# Altium schematic symbol library Flight_Computer1.SCHLIB: 60 symbols (part 4 of 4)
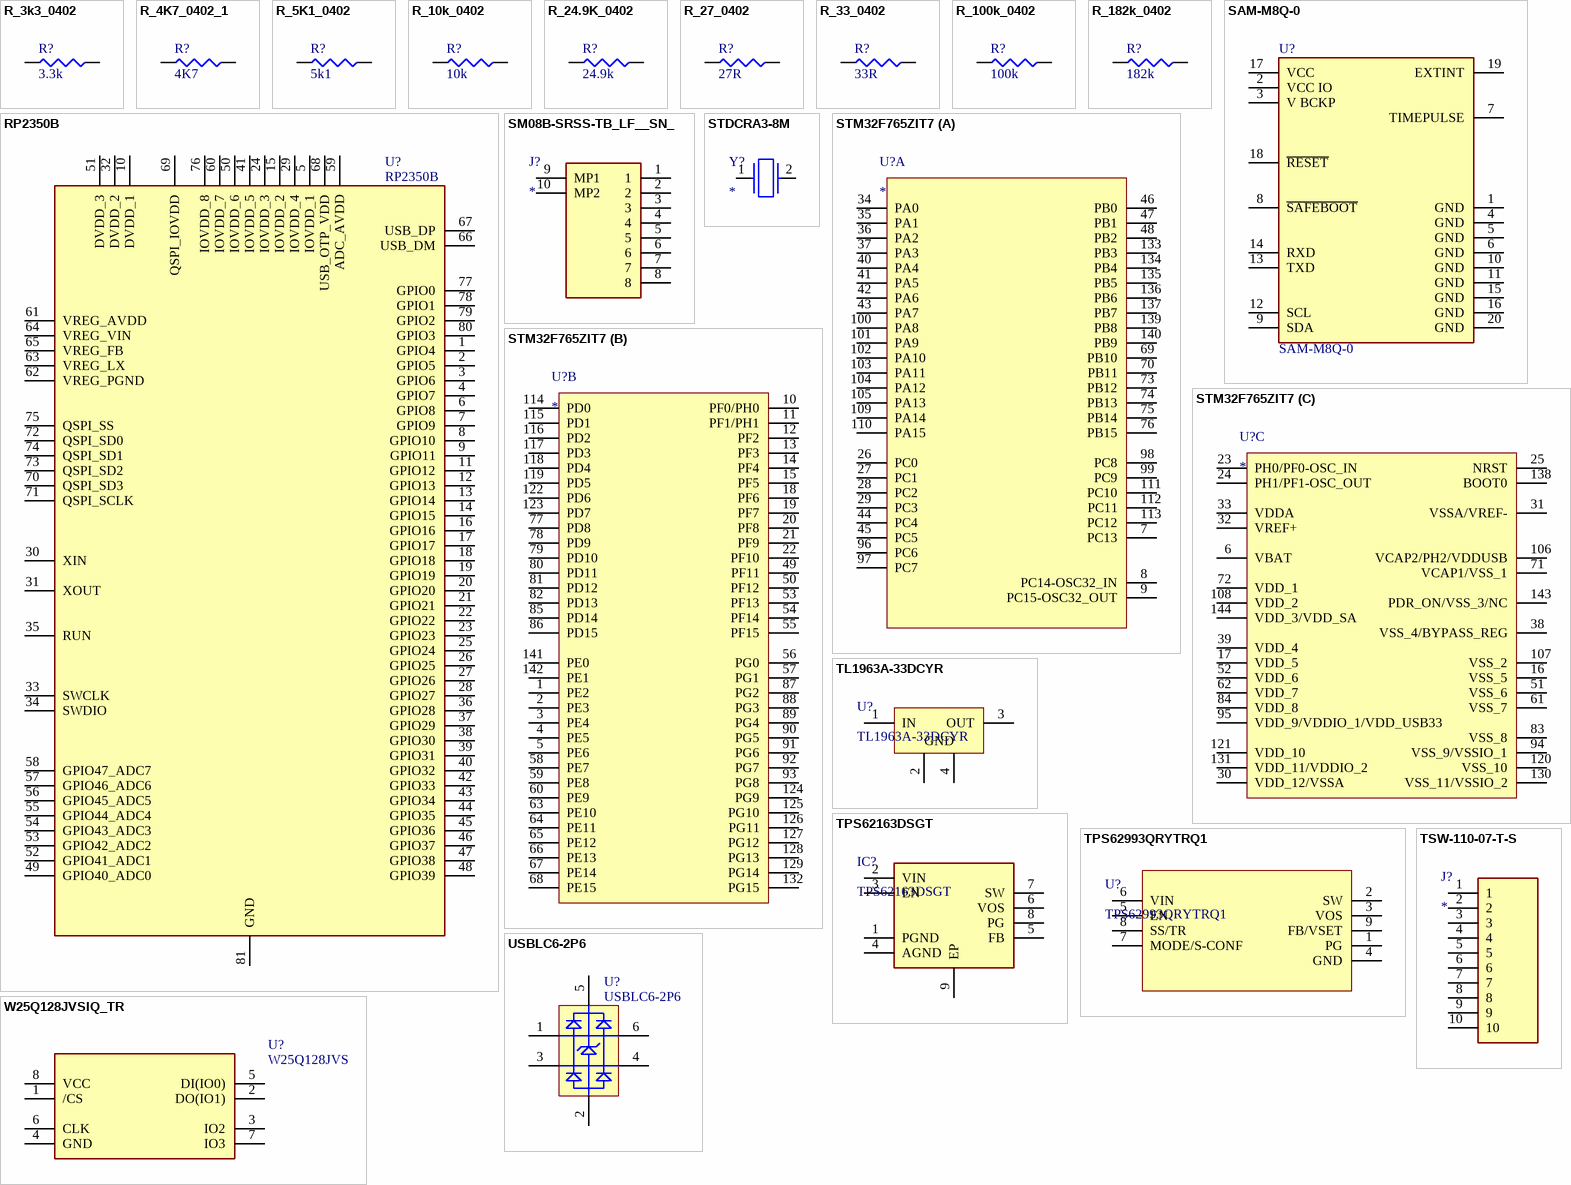
[diagram p4: symbols R_3k3_0402 to W25Q128JVSIQ_TR]

## R_182k_0402
designator R?, comment 182k
RES 182K OHM 1% 1/16W 0402; Manufacturer: Yageo Group; Manufacturer Part Number: RC0402FR-07182KL; Max Power Dissipation: 63mW; Power Dissipation: 62.5mW; Value: 182kΩ; Temperature Coefficient: 100ppm/°C; Voltage Rating: 50V; Supplier: DigiKey; Supplier Part Number: YAG3015CT-ND; RoHS: Compliant; Category: Chip SMD Resistors; Stock: 90844; Pricing: 1=0.1, 10=0.005, 25=0.0044, 50=0.004, 100=0.0036, 250=0.00308, 10000=0.00204, 20000=0.002, 30000=0.00196, 50000=0.00182, 250000=0.00181 (USD); Case/Package: 0402; Case Code (Imperial): 0402; Case Code (Metric): 1005; China RoHS: Non-Compliant; Composition: Thick Film; Depth: 500µm; Features: Moisture Resistant; Height: 350µm; Lead Free: Lead Free; Length: 1mm; Lifecycle Status: Production; Max Operating Temperature: 155°C; Military Standard: Not; Min Operating Temperature: -55°C; Mounting Technology: Surface Mount; Number of Terminals: 2; Number of Terminations: 2; Packaging: Tape & Reel; Power Rating: 63mW; REACH SVHC: Yes; Schedule B: 8533210045, 8533210045|8533210045|8533210045|8533210045|8533210045; Termination: SMD/SMT; Tolerance: 1%; Voltage Rating (DC): 50V; Width: 500µm; Working Voltage: 50V; ComponentLink1URL: https://datasheet.octopart.com:443/RC0402FR-07182KL-Yageo-datasheet-175887523.pdf?src-supplier=Newark; ComponentLink1Description: https://datasheet.octopart.com:443/RC0402FR-07182KL-Yageo-datasheet-175887523.pdf?src-supplier=Newark; ComponentLink2URL: https://datasheet.octopart.com:443/RC0402FR-07182KL-Yageo-datasheet-103092701.pdf?src-supplier=Upverter; ComponentLink2Description: https://datasheet.octopart.com:443/RC0402FR-07182KL-Yageo-datasheet-103092701.pdf?src-supplier=Upverter; ComponentLink3URL: https://datasheet.octopart.com:443/RC0402FR-07182KL-Yageo-Group-datasheet-189192902.pdf?src-supplier=TME; ComponentLink3Description: https://datasheet.octopart.com:443/RC0402FR-07182KL-Yageo-Group-datasheet-189192902.pdf?src-supplier=TME; ComponentLink4URL: https://datasheet.octopart.com:443/RC0402FR-07182KL-Yageo-Group-datasheet-176638170.pdf?src-supplier=TME; ComponentLink4Description: https://datasheet.octopart.com:443/RC0402FR-07182KL-Yageo-Group-datasheet-176638170.pdf?src-supplier=TME; ComponentLink5URL: https://datasheet.octopart.com:443/RC0402FR-07182KL-Yageo-datasheet-164759695.pdf?src-supplier=Future+Electronics; ComponentLink5Description: https://datasheet.octopart.com:443/RC0402FR-07182KL-Yageo-datasheet-164759695.pdf?src-supplier=Future+Electronics; ComponentLink6URL: https://datasheet.octopart.com:443/RC0402FR-07182KL-Yageo-datasheet-127823281.pdf?src-supplier=Future+Electronics; ComponentLink6Description: https://datasheet.octopart.com:443/RC0402FR-07182KL-Yageo-datasheet-127823281.pdf?src-supplier=Future+Electronics; ComponentLink7URL: https://datasheet.octopart.com:443/RC0402FR-07182KL-Yageo-datasheet-137700087.pdf?src-supplier=Future+Electronics; ComponentLink7Description: https://datasheet.octopart.com:443/RC0402FR-07182KL-Yageo-datasheet-137700087.pdf?src-supplier=Future+Electronics; ComponentLink8URL: https://datasheet.octopart.com:443/RC0402FR-07182KL-Yageo-datasheet-12531192.pdf?src-supplier=Future+Electronics; ComponentLink8Description: https://datasheet.octopart.com:443/RC0402FR-07182KL-Yageo-datasheet-12531192.pdf?src-supplier=Future+Electronics; ComponentLink9URL: https://datasheet.octopart.com:443/RC0402FR-07182KL-Yageo-datasheet-10408619.pdf?src-supplier=Future+Electronics; ComponentLink9Description: https://datasheet.octopart.com:443/RC0402FR-07182KL-Yageo-datasheet-10408619.pdf?src-supplier=Future+Electronics; ComponentLink10URL: https://datasheet.octopart.com/RC0402FR-07182KL-Yageo-datasheet-73766026.pdf; ComponentLink10Description: https://datasheet.octopart.com/RC0402FR-07182KL-Yageo-datasheet-73766026.pdf; ComponentLink11URL: http://sigma.octopart.com:80/rohs_statement/Yageo-company-2.pdf?src-supplier=Compliance+Statements; ComponentLink11Description: http://sigma.octopart.com:80/rohs_statement/Yageo-company-2.pdf?src-supplier=Compliance+Statements; ComponentLink12URL: http://sigma.octopart.com:80/conflict_mineral_statement/Yageo-company-3.pdf?src-supplier=Compliance+Statements; ComponentLink12Description: http://sigma.octopart.com:80/conflict_mineral_statement/Yageo-company-3.pdf?src-supplier=Compliance+Statements; LCSC Part #: C327365
footprint 0402_R
pins: 1, 2

## RP2350B
designator U?
Integrated Circuit; Manufacturer_Name: RASPBERRY-PI; Datasheet Link: https://datasheets.raspberrypi.com/rp2350/rp2350-product-brief.pdf; Height: 0.9mm; Manufacturer_Part_Number: RP2350B; LCSC Part #: C42415655
footprint QFN40P1000X1000X90-81N-D
pins: 1 GPIO4, 2 GPIO5, 3 GPIO6, 4 GPIO7, 5 IOVDD_1, 6 GPIO8, 7 GPIO9, 8 GPIO10, 9 GPIO11, 10 DVDD_1, 11 GPIO12, 12 GPIO13, 13 GPIO14, 14 GPIO15, 15 IOVDD_2, 16 GPIO16, 17 GPIO17, 18 GPIO18, 19 GPIO19, 20 GPIO20, 21 GPIO21, 22 GPIO22, 23 GPIO23, 24 IOVDD_3, 25 GPIO24, 26 GPIO25, 27 GPIO26, 28 GPIO27, 29 IOVDD_4, 30 XIN, 31 XOUT, 32 DVDD_2, 33 SWCLK, 34 SWDIO, 35 RUN, 36 GPIO28, 37 GPIO29, 38 GPIO30, 39 GPIO31, 40 GPIO32, 41 IOVDD_5, 42 GPIO33, 43 GPIO34, 44 GPIO35, 45 GPIO36, 46 GPIO37, 47 GPIO38, 48 GPIO39, 49 GPIO40_ADC0, 50 IOVDD_6, 51 DVDD_3, 52 GPIO41_ADC1, 53 GPIO42_ADC2, 54 GPIO43_ADC3, 55 GPIO44_ADC4, 56 GPIO45_ADC5, 57 GPIO46_ADC6, 58 GPIO47_ADC7, 59 ADC_AVDD, 60 IOVDD_7, 61 VREG_AVDD, 62 VREG_PGND, 63 VREG_LX, 64 VREG_VIN, 65 VREG_FB, 66 USB_DM, 67 USB_DP, 68 USB_OTP_VDD, 69 QSPI_IOVDD, 70 QSPI_SD3, 71 QSPI_SCLK, 72 QSPI_SD0, 73 QSPI_SD2, 74 QSPI_SD1, 75 QSPI_SS, 76 IOVDD_8, 77 GPIO0, 78 GPIO1, 79 GPIO2, 80 GPIO3, 81 GND

## SAM-M8Q-0
designator U?
RF RX GALILEO 1.575GHZ/1.602GHZ; Manufacturer: u-blox; Telecom IC Type: TELECOM CIRCUIT; Supplier: Digikey; Supplier Part Number: 672-1054-1-ND; Manufacturer Part Number: SAM-M8Q-0; RoHS: Yes; Category: RF Receivers, Transceivers; Stock: 3000; Pricing: 1=31.5, 10=25.91, 50=21.24, 100=18.1279 (USD); RoHS Compliant: Yes; ComponentLink1URL: https://datasheet.ciiva.com:443/pdfs/VipMasterIC/IC/UBLO/UBLO-S-A0004996580/UBLO-S-A0004996580-1.pdf?src-supplier=IHS+Markit; ComponentLink1Description: https://datasheet.ciiva.com:443/pdfs/VipMasterIC/IC/UBLO/UBLO-S-A0004996580/UBLO-S-A0004996580-1.pdf?src-supplier=IHS+Markit; ComponentLink2URL: https://datasheet.octopart.com/SAM-M8Q-0-u-blox-datasheet-137709226.pdf?src-supplier=Future+Electronics; ComponentLink2Description: https://datasheet.octopart.com/SAM-M8Q-0-u-blox-datasheet-137709226.pdf?src-supplier=Future+Electronics; ComponentLink3URL: https://datasheet.octopart.com/SAM-M8Q-0-u-blox-datasheet-88027277.pdf?src-supplier=TME; ComponentLink3Description: https://datasheet.octopart.com/SAM-M8Q-0-u-blox-datasheet-88027277.pdf?src-supplier=TME; LCSC Part #: C5447387
footprint SAMM8Q0
pins: 1 GND, 2 VCC IO, 3 V BCKP, 4 GND, 5 GND, 6 GND, 7 TIMEPULSE, 8 ~{SAFEBOOT}, 9 SDA, 10 GND, 11 GND, 12 SCL, 13 TXD, 14 RXD, 15 GND, 16 GND, 17 VCC, 18 ~{RESET}, 19 EXTINT, 20 GND

## SM08B-SRSS-TB_LF__SN_
designator J?
CONN HEADER SMD R/A 8POS 1MM; Manufacturer_Name: JST (JAPAN SOLDERLESS TERMINALS); Manufacturer_Part_Number: SM08B-SRSS-TB(LF)(SN); Manufacturer: JST; Connector Type: Male Pin; Contact Resistance: 40mΩ; Current Rating: 1A; Dielectric Material: Polyamide; Gender: Male; Insulation Resistance: 100MΩ; Number of Contacts: 8; Pitch: 990.6µm; Voltage Rating: 50V; Datasheet Link: https://www.jst-mfg.com/product/pdf/eng/eSH.pdf?681342af00cbd; Height: 2.95mm; Mouser Part Number: N/A; Mouser Price/Stock: https://www.mouser.co.uk/ProductDetail/JST-Commercial/SM08B-SRSS-TBLFSN?qs=QpmGXVUTftEPqGOAsnf4nQ%3D%3D; Arrow Part Number: SM08B-SRSS-TB(LF)(SN); Arrow Price/Stock: https://www.arrow.com/en/products/sm08b-srss-tb-lf-sn/jst-manufacturing?utm_currency=USD&region=europe; Supplier: Mouser; Supplier Part Number: 306-SM08BSRSSTBLFSN; Manufacturer Part Number: SM08B-SRSS-TB(LF)(SN); RoHS: Compliant; Category: Headers and Wire Housings; Stock: 10177; Pricing: 1=1.22, 10=1.08, 50=1.08, 100=0.922, 1000=0.813, 10000=0.691 (USD); China RoHS: Compliant; Color: Natural; Contact Gender: Male; Contact Material: Copper, Tin; Contact Plating: Tin; Flammability Rating: UL94 V-0; Housing Color: Natural; Housing Material: Nylon; Lead Free: Lead Free; Lead Pitch: 1mm; Lifecycle Status: Production; Material: Polyamide; Max Operating Temperature: 85°C; Min Operating Temperature: -25°C; Mounting Technology: Surface Mount; Pins: 8; Number of Positions: 8; Number of Rows: 1; Packaging: Cut Tape; REACH SVHC: Yes; Terminal Pitch: 1mm; Termination: Solder; Voltage Rating (AC): 50V; ComponentLink1URL: https://datasheet.octopart.com:443/SM08B-SRSS-TB%28LF%29%28SN%29-JST-datasheet-12489618.pdf?src-supplier=Upverter; ComponentLink1Description: https://datasheet.octopart.com:443/SM08B-SRSS-TB%28LF%29%28SN%29-JST-datasheet-12489618.pdf?src-supplier=Upverter; ComponentLink2URL: https://datasheet.octopart.com:443/SM08B-SRSS-TB%28LF%29%28SN%29-JST-datasheet-152738602.pdf?src-supplier=Upverter; ComponentLink2Description: https://datasheet.octopart.com:443/SM08B-SRSS-TB%28LF%29%28SN%29-JST-datasheet-152738602.pdf?src-supplier=Upverter; ComponentLink3URL: https://datasheet.octopart.com:443/SM08B-SRSS-TB%28LF%29%28SN%29-JST-datasheet-8330955.pdf?src-supplier=Upverter; ComponentLink3Description: https://datasheet.octopart.com:443/SM08B-SRSS-TB%28LF%29%28SN%29-JST-datasheet-8330955.pdf?src-supplier=Upverter; ComponentLink4URL: https://datasheet.octopart.com:443/SM08B-SRSS-TB%28LF%29%28SN%29-JST-datasheet-5322443.pdf?src-supplier=element14+APAC; ComponentLink4Description: https://datasheet.octopart.com:443/SM08B-SRSS-TB%28LF%29%28SN%29-JST-datasheet-5322443.pdf?src-supplier=element14+APAC; ComponentLink5URL: https://datasheet.octopart.com:443/SM08B-SRSS-TB%28LF%29%28SN%29-JST-datasheet-65849987.pdf?src-supplier=element14+APAC; ComponentLink5Description: https://datasheet.octopart.com:443/SM08B-SRSS-TB%28LF%29%28SN%29-JST-datasheet-65849987.pdf?src-supplier=element14+APAC; ComponentLink6URL: https://datasheet.octopart.com:443/SM08B-SRSS-TB%28LF%29%28SN%29-JST-datasheet-12513377.pdf?src-supplier=Future+Electronics; ComponentLink6Description: https://datasheet.octopart.com:443/SM08B-SRSS-TB%28LF%29%28SN%29-JST-datasheet-12513377.pdf?src-supplier=Future+Electronics; ComponentLink7URL: https://datasheet.octopart.com:443/SM08B-SRSS-TB/LF/SN-JST-datasheet-120967.pdf?src-supplier=Future+Electronics; ComponentLink7Description: https://datasheet.octopart.com:443/SM08B-SRSS-TB/LF/SN-JST-datasheet-120967.pdf?src-supplier=Future+Electronics; ComponentLink8URL: https://datasheet.octopart.com:443/SM08B-SRSS-TB-%28LF%29%28SN%29-JST-datasheet-44103209.pdf?src-supplier=TME; ComponentLink8Description: https://datasheet.octopart.com:443/SM08B-SRSS-TB-%28LF%29%28SN%29-JST-datasheet-44103209.pdf?src-supplier=TME; ComponentLink9URL: https://datasheet.octopart.com:443/SM08B-SRSS-TB%28LF%29%28SN%29-JST-datasheet-119911.pdf?src-supplier=DigiKey; ComponentLink9Description: https://datasheet.octopart.com:443/SM08B-SRSS-TB%28LF%29%28SN%29-JST-datasheet-119911.pdf?src-supplier=DigiKey; LCSC Part #: C160407
footprint SM08BSRSSTBLFSN
pins: 1, 2, 3, 4, 5, 6, 7, 8, 9 MP1, 10 MP2

## STDCRA3-8M
designator Y?
CRYSTAL 8.0000MHZ 8PF SMD; Manufacturer_Name: NDK; Manufacturer_Part_Number: STDCRA3-8M; Frequency: 8MHz; Frequency Stability: 150ppm; Frequency Tolerance: 0.005%; ESR: 500Ω; Datasheet Link: https://www.ndk.com/images/products/catalog/c_NX3225GD_e.pdf; Height: 1mm; Supplier: DigiKey; Supplier Part Number: 644-STDCRA3-8MCT-ND; Manufacturer: NDK; Manufacturer Part Number: STDCRA3-8M; Category: Crystals; Stock: 54021; Pricing: 1=0.84, 10=0.733, 25=0.6936, 50=0.665, 100=0.6374, 250=0.6028, 500=0.57786, 1000=0.55395 (USD); Lifecycle Status: Production; Load Capacitance: 8pF; Max Operating Temperature: 150°C; Min Operating Temperature: -40°C; Mounting Technology: Surface Mount; LCSC Part #: C6346160
footprint STDCRA38M
pins: 1, 2

## STM32F765ZIT7
designator U?
Integrated Circuit; Manufacturer_Name: STMicroelectronics; Manufacturer_Part_Number: STM32F765ZIT7; Datasheet Link: https://www.st.com/resource/en/datasheet/stm32f765bi.pdf; Height: 1.6mm; Mouser Part Number: 511-STM32F765ZIT7; Mouser Price/Stock: https://www.mouser.co.uk/ProductDetail/STMicroelectronics/STM32F765ZIT7?qs=lYGu3FyN48df6bb2YhdYOw%3D%3D; Arrow Part Number: STM32F765ZIT7; Arrow Price/Stock: https://www.arrow.com/en/products/stm32f765zit7/stmicroelectronics?utm_currency=USD&region=nac
footprint QFP50P2200X2200X160-144N
part A pins: 7 PC13, 8 PC14-OSC32_IN, 9 PC15-OSC32_OUT, 26 PC0, 27 PC1, 28 PC2, 29 PC3, 34 PA0, 35 PA1, 36 PA2, 37 PA3, 40 PA4, 41 PA5, 42 PA6, 43 PA7, 44 PC4, 45 PC5, 46 PB0, 47 PB1, 48 PB2, 69 PB10, 70 PB11, 73 PB12, 74 PB13, 75 PB14, 76 PB15, 96 PC6, 97 PC7, 98 PC8, 99 PC9, 100 PA8, 101 PA9, 102 PA10, 103 PA11, 104 PA12, 105 PA13, 109 PA14, 110 PA15, 111 PC10, 112 PC11, 113 PC12, 133 PB3, 134 PB4, 135 PB5, 136 PB6, 137 PB7, 139 PB8, 140 PB9
part B pins: 1 PE2, 2 PE3, 3 PE4, 4 PE5, 5 PE6, 10 PF0/PH0, 11 PF1/PH1, 12 PF2, 13 PF3, 14 PF4, 15 PF5, 18 PF6, 19 PF7, 20 PF8, 21 PF9, 22 PF10, 49 PF11, 50 PF12, 53 PF13, 54 PF14, 55 PF15, 56 PG0, 57 PG1, 58 PE7, 59 PE8, 60 PE9, 63 PE10, 64 PE11, 65 PE12, 66 PE13, 67 PE14, 68 PE15, 77 PD8, 78 PD9, 79 PD10, 80 PD11, 81 PD12, 82 PD13, 85 PD14, 86 PD15, 87 PG2, 88 PG3, 89 PG4, 90 PG5, 91 PG6, 92 PG7, 93 PG8, 114 PD0, 115 PD1, 116 PD2, 117 PD3, 118 PD4, 119 PD5, 122 PD6, 123 PD7, 124 PG9, 125 PG10, 126 PG11, 127 PG12, 128 PG13, 129 PG14, 132 PG15, 141 PE0, 142 PE1
part C pins: 6 VBAT, 16 VSS_5, 17 VDD_5, 23 PH0/PF0-OSC_IN, 24 PH1/PF1-OSC_OUT, 25 NRST, 30 VDD_12/VSSA, 31 VSSA/VREF-, 32 VREF+, 33 VDDA, 38 VSS_4/BYPASS_REG, 39 VDD_4, 51 VSS_6, 52 VDD_6, 61 VSS_7, 62 VDD_7, 71 VCAP1/VSS_1, 72 VDD_1, 83 VSS_8, 84 VDD_8, 94 VSS_9/VSSIO_1, 95 VDD_9/VDDIO_1/VDD_USB33, 106 VCAP2/PH2/VDDUSB, 107 VSS_2, 108 VDD_2, 120 VSS_10, 121 VDD_10, 130 VSS_11/VSSIO_2, 131 VDD_11/VDDIO_2, 138 BOOT0, 143 PDR_ON/VSS_3/NC, 144 VDD_3/VDD_SA

## TL1963A-33DCYR
designator U?
1.5-A, 20-V, low-dropout voltage regulator with reverse current & reverse voltage protection; Manufacturer_Name: Texas Instruments; Manufacturer Lifecycle Status: ACTIVE; Accuracy: 3%; Dropout Voltage: 340mV; Input Bias Current: 1mA; Max Supply Voltage: 20V; Max Output current: 1.5A; Max Output Voltage: 3.3V; Min Current Limit: 1.6A; Min Input Voltage: 2.1V; Number of Outputs: 1; Output Type: Fixed; Polarity: Positive; Datasheet Link: http://www.ti.com/lit/gpn/tl1963a; Height: 1.8mm; Manufacturer_Part_Number: TL1963A-33DCYR; Mouser Part Number: 595-TL1963A-33DCYR; Mouser Price/Stock: https://www.mouser.co.uk/ProductDetail/Texas-Instruments/TL1963A-33DCYR?qs=IK5e5L0zOXhRu%2FNTAfJNEA%3D%3D; Arrow Part Number: TL1963A-33DCYR; Arrow Price/Stock: https://www.arrow.com/en/products/tl1963a-33dcyr/texas-instruments?utm_currency=USD&region=nac; Supplier: DigiKey; Supplier Part Number: 296-24897-1-ND; Manufacturer: Texas Instruments; Manufacturer Part Number: TL1963A-33DCYR; RoHS: Compliant; Category: LDO Voltage Regulators; Stock: 4355; Pricing: 1=3.13, 10=2.344, 25=2.1476, 100=1.9323, 250=1.82956, 500=1.76766, 1000=1.71669 (USD); Case/Package: SOT-223; Contact Plating: Tin; Lead Free: Lead Free; Length: 6.5mm; Lifecycle Status: Production; Max Operating Temperature: 125°C; Min Operating Temperature: -40°C; Min Output Voltage: 3.3V; Nominal Output Voltage: 3.3V; Pins: 4; Number of Regulators: 1; Output Current: 1.5A; Output Voltage: 3.3V; Quiescent Current: 1mA; Radiation Hardening: No; REACH SVHC: No; Schedule B: 8542390000, 8542390000|8542390000|8542390000|8542390000|8542390000; Thickness: 1.6mm; Width: 3.5mm; ComponentLink1URL: https://datasheet.octopart.com:443/TL1963A-33DCYR-Texas-Instruments-datasheet-36835243.pdf?src-supplier=Texas+Instruments; ComponentLink1Description: https://datasheet.octopart.com:443/TL1963A-33DCYR-Texas-Instruments-datasheet-36835243.pdf?src-supplier=Texas+Instruments; ComponentLink2URL: https://octopart.com:443/opatz8j6/c1?t=3Lun9PgwTMhtjoCtZHlriymffnwWqKd51HlxjKqmfGY6_H2C_KBuCJotYNbhgrmUW1am7v6JdR1BM8r4TVwEJHz6z_rYMi0Qs0z031CNxm_B_9-BYGGxZ_Fe_No2pK5gm8TBALu2o229stvTAGB7nDQj_d6eLc_WleCR5PgeZcoHvq5uYRxI2mhH3aTbYxZvOcpV44gzguOSokgnxqAqTlA2HdDmfd41lcX8KmPOnU485MJM9pETPtWF01ZaQY57NDW7-ROrD2Y9bItpv_3any2aMifmmrhF_toBthhzSyuf2zhFnIbHnl95_iEcXCGpEhG0L2gK6G5uW0d_9rjbvPyTU-a0lHmUSU5HzPKTGuVJR0-dcjYtdbWCQCILPtH1cCuZdAY&src-supplier=Texas+Instruments; ComponentLink2Description: https://octopart.com:443/opatz8j6/c1?t=3Lun9PgwTMhtjoCtZHlriymffnwWqKd51HlxjKqmfGY6_H2C_KBuCJotYNbhgrmUW1am7v6JdR1BM8r4TVwEJHz6z_rYMi0Qs0z031CNxm_B_9-BYGGxZ_Fe_No2pK5gm8TBALu2o229stvTAGB7nDQj_d6eLc_WleCR5PgeZcoHvq5uYRxI2mhH3aTbYxZvOcpV44gzguOSokgnxqAqTlA2HdDmfd41lcX8KmPOnU485MJM9pETPtWF01ZaQY57NDW7-ROrD2Y9bItpv_3any2aMifmmrhF_toBthhzSyuf2zhFnIbHnl95_iEcXCGpEhG0L2gK6G5uW0d_9rjbvPyTU-a0lHmUSU5HzPKTGuVJR0-dcjYtdbWCQCILPtH1cCuZdAY&src-supplier=Texas+Instruments; ComponentLink3URL: https://datasheet.octopart.com:443/TL1963A-33DCYR-Texas-Instruments-datasheet-10255270.pdf?src-supplier=Texas+Instruments; ComponentLink3Description: https://datasheet.octopart.com:443/TL1963A-33DCYR-Texas-Instruments-datasheet-10255270.pdf?src-supplier=Texas+Instruments; ComponentLink4URL: https://sigma.octopart.com:443/49253063/technical_drawing/Texas-Instruments-TL1963A-33DCYR.pdf?src-supplier=Texas+Instruments; ComponentLink4Description: https://sigma.octopart.com:443/49253063/technical_drawing/Texas-Instruments-TL1963A-33DCYR.pdf?src-supplier=Texas+Instruments; ComponentLink5URL: https://datasheet.octopart.com:443/TL1963A-33DCYR-Texas-Instruments-datasheet-159117591.pdf?src-supplier=Augswan; ComponentLink5Description: https://datasheet.octopart.com:443/TL1963A-33DCYR-Texas-Instruments-datasheet-159117591.pdf?src-supplier=Augswan; ComponentLink6URL: https://datasheet.octopart.com:443/TL1963A-33DCYR-Texas-Instruments-datasheet-21820479.pdf?src-supplier=Newark; ComponentLink6Description: https://datasheet.octopart.com:443/TL1963A-33DCYR-Texas-Instruments-datasheet-21820479.pdf?src-supplier=Newark; ComponentLink7URL: https://datasheet.octopart.com:443/TL1963A-33DCYR-Texas-Instruments-datasheet-16079880.pdf?src-supplier=Farnell; ComponentLink7Description: https://datasheet.octopart.com:443/TL1963A-33DCYR-Texas-Instruments-datasheet-16079880.pdf?src-supplier=Farnell; ComponentLink8URL: https://datasheet.octopart.com:443/TL1963A-33DCYR-Texas-Instruments-datasheet-14171511.pdf?src-supplier=iiiC; ComponentLink8Description: https://datasheet.octopart.com:443/TL1963A-33DCYR-Texas-Instruments-datasheet-14171511.pdf?src-supplier=iiiC; ComponentLink9URL: http://sigma.octopart.com:80/conflict_mineral_statement/Texas-Instruments-company-63.pdf?src-supplier=Compliance+Statements; ComponentLink9Description: http://sigma.octopart.com:80/conflict_mineral_statement/Texas-Instruments-company-63.pdf?src-supplier=Compliance+Statements; ComponentLink10URL: http://sigma.octopart.com:80/reach_statement/Texas-Instruments-company-64.pdf?src-supplier=Compliance+Statements; ComponentLink10Description: http://sigma.octopart.com:80/reach_statement/Texas-Instruments-company-64.pdf?src-supplier=Compliance+Statements; LCSC Part #: C181262
footprint SOT230P700X180-4N
pins: 1 IN (power) "Input. Power is supplied to the device through the IN pin. A bypass capacitor is required on this pin if the device is more than six inches away from the main input filter capacitor. In general, the output impedance of a (See Datasheet)", 2 GND (power) "Ground", 3 OUT (power) "Output. The output supplies power to the load. A minimum output capacitor (ceramic) of 10 uF is required to prevent oscillations. Larger output capacitors are required for applications with large transient loads to limit (See Datasheet)", 4 GND (power) "Ground"

## TPS62163DSGT
designator IC?
IC REG BUCK 5V 1A 8WSON; Manufacturer_Name: Texas Instruments; Manufacturer Lifecycle Status: ACTIVE; Max Duty Cycle: 100%; Max Supply Voltage: 17V; Max Junction Temperature (Tj): 125°C; Min Input Voltage: 3V; Nominal Supply Current: 17µA; Number of Outputs: 1; Output Type: Fixed; Switching Frequency: 2.25MHz; Synchronous Rectifier: Yes; Datasheet Link: https://www.ti.com/lit/ds/symlink/tps62163.pdf?ts=1621506355275&ref_url=https%253A%252F%252Fwww.ti.com%252Fproduct%252FTPS62163; Height: 0.8mm; Manufacturer_Part_Number: TPS62163DSGT; Mouser Part Number: 595-TPS62163DSGT; Mouser Price/Stock: https://www.mouser.co.uk/ProductDetail/Texas-Instruments/TPS62163DSGT?qs=gXEV9p%2FxLgcqsEOUK5Q%252BWg%3D%3D; Supplier: DigiKey; Supplier Part Number: 296-30228-1-ND; Manufacturer: Texas Instruments; Manufacturer Part Number: TPS62163DSGT; RoHS: Compliant; Category: Voltage Regulators - Switching; Stock: 8343; Pricing: 1=1.98, 10=1.463, 25=1.3324, 100=1.1892 (USD); Case/Package: SOIC; Contact Plating: Gold; Lead Free: Lead Free; Length: 2mm; Lifecycle Status: Production; Max Operating Temperature: 125°C; Max Output current: 1A; Max Output Voltage: 5V; Min Operating Temperature: -40°C; Min Output Voltage: 5V; Min Supply Voltage: 3V; Nominal Output Voltage: 5V; Pins: 8; Operating Supply Voltage: 17V; Output Current: 1A; Output Voltage: 5V; Quiescent Current: 17µA; Radiation Hardening: No; REACH SVHC: No; Schedule B: 8542390000|8542390000|8542390000|8542390000|8542390000; Thickness: 750µm; Topology: Buck; Width: 2mm; ComponentLink1URL: https://sigma.octopart.com:443/95947955/technical_drawing/Texas-Instruments-TPS62163DSGT.pdf?src-supplier=Texas+Instruments; ComponentLink1Description: https://sigma.octopart.com:443/95947955/technical_drawing/Texas-Instruments-TPS62163DSGT.pdf?src-supplier=Texas+Instruments; ComponentLink2URL: https://octopart.com:443/opatz8j6/c1?t=4Y3rEMNPjIGDzCf2KGR2oejd6qZ9NYPABMQkDQvGn5Vuf0OqUrexjcBrk2fAg0ucVVoj0vgkII6Hl02ygZGyD_JDDf854N3bIJN0RbxbQkqPUG7jvolTtTRK5tp2oV-UtTpzXsUSHFgM-GoGYpzD4CcP5sDpbTqTZ3LNuBou0Zqyagl61FUpPueg4kiTOlJLH6lg6luuZGL5R8owEs7e5VILW4fWokwnaY_XzxXvbJByZ8mDM42UCHtOa-CkvNpG1iFtB2b26oIki0fUXO5upNcjtj-7CexuZ76a6Tmf7FMNwfIz31L9-6t14j20ObK_zaS3d7TIRM7hJPUnBFiYRJVqgt_vvrGm_JnLSzMEYRgzDIjl0xZ51k32Ljul7hNJwrs1L4U2&src-supplier=Texas+Instruments; ComponentLink2Description: https://octopart.com:443/opatz8j6/c1?t=4Y3rEMNPjIGDzCf2KGR2oejd6qZ9NYPABMQkDQvGn5Vuf0OqUrexjcBrk2fAg0ucVVoj0vgkII6Hl02ygZGyD_JDDf854N3bIJN0RbxbQkqPUG7jvolTtTRK5tp2oV-UtTpzXsUSHFgM-GoGYpzD4CcP5sDpbTqTZ3LNuBou0Zqyagl61FUpPueg4kiTOlJLH6lg6luuZGL5R8owEs7e5VILW4fWokwnaY_XzxXvbJByZ8mDM42UCHtOa-CkvNpG1iFtB2b26oIki0fUXO5upNcjtj-7CexuZ76a6Tmf7FMNwfIz31L9-6t14j20ObK_zaS3d7TIRM7hJPUnBFiYRJVqgt_vvrGm_JnLSzMEYRgzDIjl0xZ51k32Ljul7hNJwrs1L4U2&src-supplier=Texas+Instruments; ComponentLink3URL: https://datasheet.octopart.com:443/TPS62163DSGT-Texas-Instruments-datasheet-41205298.pdf?src-supplier=Texas+Instruments; ComponentLink3Description: https://datasheet.octopart.com:443/TPS62163DSGT-Texas-Instruments-datasheet-41205298.pdf?src-supplier=Texas+Instruments; ComponentLink4URL: https://datasheet.octopart.com:443/TPS62163DSGT-Texas-Instruments-datasheet-17762601.pdf?src-supplier=Texas+Instruments; ComponentLink4Description: https://datasheet.octopart.com:443/TPS62163DSGT-Texas-Instruments-datasheet-17762601.pdf?src-supplier=Texas+Instruments; ComponentLink5URL: https://datasheet.octopart.com:443/TPS62163DSGT-Texas-Instruments-datasheet-10899190.pdf?src-supplier=Texas+Instruments; ComponentLink5Description: https://datasheet.octopart.com:443/TPS62163DSGT-Texas-Instruments-datasheet-10899190.pdf?src-supplier=Texas+Instruments; ComponentLink6URL: https://datasheet.octopart.com:443/TPS62163DSGT-Texas-Instruments-datasheet-10748589.pdf?src-supplier=Texas+Instruments; ComponentLink6Description: https://datasheet.octopart.com:443/TPS62163DSGT-Texas-Instruments-datasheet-10748589.pdf?src-supplier=Texas+Instruments; ComponentLink7URL: https://datasheet.octopart.com:443/TPS62163DSGT-Texas-Instruments-datasheet-10623747.pdf?src-supplier=Texas+Instruments; ComponentLink7Description: https://datasheet.octopart.com:443/TPS62163DSGT-Texas-Instruments-datasheet-10623747.pdf?src-supplier=Texas+Instruments; ComponentLink8URL: https://sigma.octopart.com:443/49250759/technical_drawing/Texas-Instruments-TPS62163DSGT.pdf?src-supplier=Texas+Instruments; ComponentLink8Description: https://sigma.octopart.com:443/49250759/technical_drawing/Texas-Instruments-TPS62163DSGT.pdf?src-supplier=Texas+Instruments; ComponentLink9URL: https://datasheet.octopart.com:443/TPS62163DSGT-Texas-Instruments-datasheet-17318276.pdf?src-supplier=Factory+Futures; ComponentLink9Description: https://datasheet.octopart.com:443/TPS62163DSGT-Texas-Instruments-datasheet-17318276.pdf?src-supplier=Factory+Futures; ComponentLink10URL: https://datasheet.octopart.com:443/TPS62163DSGT-Texas-Instruments-datasheet-66617844.pdf?src-supplier=Farnell; ComponentLink10Description: https://datasheet.octopart.com:443/TPS62163DSGT-Texas-Instruments-datasheet-66617844.pdf?src-supplier=Farnell; ComponentLink11URL: https://datasheet.octopart.com:443/TPS62163DSGT-Texas-Instruments-datasheet-33019207.pdf?src-supplier=element14+APAC; ComponentLink11Description: https://datasheet.octopart.com:443/TPS62163DSGT-Texas-Instruments-datasheet-33019207.pdf?src-supplier=element14+APAC; ComponentLink12URL: https://datasheet.octopart.com:443/TPS62163DSGT-Texas-Instruments-datasheet-11536650.pdf?src-supplier=Newark; ComponentLink12Description: https://datasheet.octopart.com:443/TPS62163DSGT-Texas-Instruments-datasheet-11536650.pdf?src-supplier=Newark; ComponentLink13URL: http://sigma.octopart.com:80/conflict_mineral_statement/Texas-Instruments-company-63.pdf?src-supplier=Compliance+Statements; ComponentLink13Description: http://sigma.octopart.com:80/conflict_mineral_statement/Texas-Instruments-company-63.pdf?src-supplier=Compliance+Statements; ComponentLink14URL: http://sigma.octopart.com:80/reach_statement/Texas-Instruments-company-64.pdf?src-supplier=Compliance+Statements; ComponentLink14Description: http://sigma.octopart.com:80/reach_statement/Texas-Instruments-company-64.pdf?src-supplier=Compliance+Statements; LCSC Part #: C201706
footprint SON50P200X200X80-9N
pins: 1 PGND, 2 VIN, 3 EN, 4 AGND, 5 FB, 6 VOS, 7 SW, 8 PG, 9 EP

## TPS62993QRYTRQ1
designator U?
IC REG BUCK ADJ 3A 9VQFN; Manufacturer: Texas Instruments; Supplier: Digikey; Supplier Part Number: 296-TPS62993QRYTRQ1CT-ND; Manufacturer Part Number: TPS62993QRYTRQ1; RoHS: No; Category: Integrated Circuits (ICs); Stock: 5849; Pricing: 1=1.93, 10=1.418, 25=1.2916, 100=1.1519, 250=1.0854, 500=1.0453, 1000=1.01229 (USD); LCSC Part #: C5342042
footprint RYT0009A-MFG
pins: 1 PG, 2 SW, 3 VOS, 4 GND, 5 EN, 6 VIN, 7 MODE/S-CONF, 8 SS/TR, 9 FB/VSET

## TSW-110-07-T-S
designator J?
CONN HEADER VERT 10POS 2.54MM; Manufacturer_Name: SAMTEC; Manufacturer_Part_Number: TSW-110-07-T-S; Manufacturer Lifecycle Status: PRODUCTION; Connector Type: Male Pin; Gender: Male; Max Current Rating: 7.6A; Max Voltage Rating (AC): 550V; Number of Contacts: 10; Datasheet Link: https://www.samtec.com/partnumber/TSW-110-07-T-S; Mouser Part Number: 200-TSW11007TS; Mouser Price/Stock: https://www.mouser.co.uk/ProductDetail/Samtec/TSW-110-07-T-S?qs=rU5fayqh%252BE03fU8gEqe7bw%3D%3D; Arrow Part Number: TSW-110-07-T-S; Arrow Price/Stock: https://www.arrow.com/en/products/tsw-110-07-t-s/samtec?region=nac; Supplier: DigiKey; Supplier Part Number: SAM1035-10-ND; Manufacturer: Samtec; Manufacturer Part Number: TSW-110-07-T-S; RoHS: Compliant; Category: Headers and Wire Housings; Stock: 1480; Pricing: 1=0.76, 10=0.645, 100=0.5476, 500=0.48878, 1000=0.46544, 5000=0.43876 (USD); Color: Black; Contact Material: Nickel, Tin; Contact Mating Length: 5.842mm; Contact Plating: Tin; Depth: 2.54mm; Height: 8.71mm; Housing Color: Black; Housing Material: Polyester; Lead Free: Lead Free; Lead Pitch: 2.54mm; Length: 25.4mm; Lifecycle Status: Production; Max Operating Temperature: 105°C; Min Operating Temperature: -55°C; Mounting Technology: Through Hole; Pins: 10; Number of Positions: 10; Number of Rows: 1; Orientation: Straight; Packaging: Bulk; Pitch: 2.54mm; Radiation Hardening: No; REACH SVHC: No; Termination: Solder; Width: 2.54mm; ComponentLink1URL: https://datasheet.octopart.com:443/TSW-110-07-T-S-Samtec-datasheet-151455181.pdf?src-supplier=Upverter; ComponentLink1Description: https://datasheet.octopart.com:443/TSW-110-07-T-S-Samtec-datasheet-151455181.pdf?src-supplier=Upverter; ComponentLink2URL: https://sigma.octopart.com:443/14433679/technical_drawing/Samtec-TSW-110-07-T-S.pdf?src-supplier=Upverter; ComponentLink2Description: https://sigma.octopart.com:443/14433679/technical_drawing/Samtec-TSW-110-07-T-S.pdf?src-supplier=Upverter; ComponentLink3URL: https://datasheet.octopart.com:443/TSW-110-07-T-S-Samtec-datasheet-97325576.pdf?src-supplier=Sager+Electronics; ComponentLink3Description: https://datasheet.octopart.com:443/TSW-110-07-T-S-Samtec-datasheet-97325576.pdf?src-supplier=Sager+Electronics; ComponentLink4URL: https://sigma.octopart.com:443/97325577/technical_drawing/Samtec-TSW-110-07-T-S.pdf?src-supplier=Samtec; ComponentLink4Description: https://sigma.octopart.com:443/97325577/technical_drawing/Samtec-TSW-110-07-T-S.pdf?src-supplier=Samtec; ComponentLink5URL: https://datasheet.octopart.com:443/TSW-110-07-T-S-Samtec-datasheet-62107121.pdf?src-supplier=element14+APAC; ComponentLink5Description: https://datasheet.octopart.com:443/TSW-110-07-T-S-Samtec-datasheet-62107121.pdf?src-supplier=element14+APAC; ComponentLink6URL: https://datasheet.octopart.com:443/TSW-110-07-T-S-Samtec-datasheet-136646178.pdf?src-supplier=Master+Electronics; ComponentLink6Description: https://datasheet.octopart.com:443/TSW-110-07-T-S-Samtec-datasheet-136646178.pdf?src-supplier=Master+Electronics; ComponentLink7URL: https://datasheet.octopart.com:443/TSW-110-07-T-S-Samtec-datasheet-118235302.pdf?src-supplier=Electro+Sonic; ComponentLink7Description: https://datasheet.octopart.com:443/TSW-110-07-T-S-Samtec-datasheet-118235302.pdf?src-supplier=Electro+Sonic; ComponentLink8URL: https://datasheet.octopart.com:443/TSW-110-07-T-S-Samtec-datasheet-180258786.pdf?src-supplier=JRH+Electronics; ComponentLink8Description: https://datasheet.octopart.com:443/TSW-110-07-T-S-Samtec-datasheet-180258786.pdf?src-supplier=JRH+Electronics; ComponentLink9URL: https://datasheet.octopart.com:443/TSW-110-07-T-S-Samtec-datasheet-164324425.pdf?src-supplier=Newark; ComponentLink9Description: https://datasheet.octopart.com:443/TSW-110-07-T-S-Samtec-datasheet-164324425.pdf?src-supplier=Newark; ComponentLink10URL: https://datasheet.octopart.com:443/TSW-110-07-T-S-Samtec-datasheet-11047283.pdf?src-supplier=Newark; ComponentLink10Description: https://datasheet.octopart.com:443/TSW-110-07-T-S-Samtec-datasheet-11047283.pdf?src-supplier=Newark; ComponentLink11URL: https://datasheet.octopart.com:443/TSW-110-07-T-S-Samtec-datasheet-160657603.pdf?src-supplier=Toby+Electronics; ComponentLink11Description: https://datasheet.octopart.com:443/TSW-110-07-T-S-Samtec-datasheet-160657603.pdf?src-supplier=Toby+Electronics; ComponentLink12URL: https://datasheet.octopart.com:443/TSW-110-07-T-S-Samtec-datasheet-116539033.pdf?src-supplier=Toby+Electronics; ComponentLink12Description: https://datasheet.octopart.com:443/TSW-110-07-T-S-Samtec-datasheet-116539033.pdf?src-supplier=Toby+Electronics; ComponentLink13URL: https://datasheet.octopart.com:443/TSW-110-07-T-S-Samtec-datasheet-116536310.pdf?src-supplier=Toby+Electronics; ComponentLink13Description: https://datasheet.octopart.com:443/TSW-110-07-T-S-Samtec-datasheet-116536310.pdf?src-supplier=Toby+Electronics; ComponentLink14URL: https://datasheet.octopart.com/TSW-110-07-T-S-Samtec-datasheet-86818365.pdf; ComponentLink14Description: https://datasheet.octopart.com/TSW-110-07-T-S-Samtec-datasheet-86818365.pdf; ComponentLink15URL: https://datasheet.octopart.com:443/TSW-110-07-T-S-Samtec-datasheet-11542832.pdf?src-supplier=Arrow+Electronics; ComponentLink15Description: https://datasheet.octopart.com:443/TSW-110-07-T-S-Samtec-datasheet-11542832.pdf?src-supplier=Arrow+Electronics; ComponentLink16URL: https://datasheet.octopart.com:443/TSW-110-07-T-S-Samtec-datasheet-5313500.pdf?src-supplier=_legacy+Avnet; ComponentLink16Description: https://datasheet.octopart.com:443/TSW-110-07-T-S-Samtec-datasheet-5313500.pdf?src-supplier=_legacy+Avnet; LCSC Part #: C7128266
footprint TSW-110-XX-YY-S
pins: 1, 2, 3, 4, 5, 6, 7, 8, 9, 10

## USBLC6-2P6
designator U?
Integrated Circuit; Manufacturer_Name: STMicroelectronics; Datasheet Link: https://datasheet.lcsc.com/szlcsc/STMicroelectronics-USBLC6-2P6_C15999.pdf; Height: 0.6mm; Manufacturer_Part_Number: USBLC6-2P6; Mouser Part Number: 511-USBLC6-2P6; Mouser Price/Stock: https://www.mouser.co.uk/ProductDetail/STMicroelectronics/USBLC6-2P6?qs=6ARB0lp6jlViGcbUSvj1Mw%3D%3D; Arrow Part Number: USBLC6-2P6; Arrow Price/Stock: https://www.arrow.com/en/products/usblc6-2p6/stmicroelectronics?utm_currency=USD&region=europe; LCSC Part #: C15999
footprint USBLC62P6
pins: 1 I/O1_1, 2 GND, 3 I/O2_1, 4 I/O2_2, 5 VBUS, 6 I/O1_2

## W25Q128JVSIQ_TR
designator U?, comment W25Q128JVS
IC FLASH 128MBIT SPI/QUAD 8SOIC; Manufacturer_Name: Winbond; Manufacturer_Part_Number: W25Q128JVSIQ TR; Datasheet Link: http://www.winbond.com/resource-files/w25q128jv%20spi%20revc%2011162016.pdf; Height: 1.95mm; Mouser Part Number: 454-W25Q128JVSIQTR; Mouser Price/Stock: https://www.mouser.co.uk/ProductDetail/Winbond/W25Q128JVSIQ-TR?qs=qSfuJ%252Bfl%2Fd7vTyLA9kNdGw%3D%3D; Arrow Part Number: W25Q128JVSIQ TR; Arrow Price/Stock: https://www.arrow.com/en/products/w25q128jvsiqtr/winbond-electronics?utm_currency=USD&region=nac; LCSC Part #: C97521
footprint SOIC127P780X195-8N
pins: 1 /CS, 2 DO(IO1), 3 IO2, 4 GND, 5 DI(IO0), 6 CLK, 7 IO3, 8 VCC